# Altium footprint library Transistors$.PcbLib: 18 footprints (part 1 of 2)
Each footprint in its own frame and in the unit in brackets; x right, y up, seen from the top. Pads: shape width x height; smd on the part's side, far side on the other; paste and mask are expansions set on the pad; w line width, h text height; cw(c..) or ccw(c..) is an arc to the next point about the centre after c.
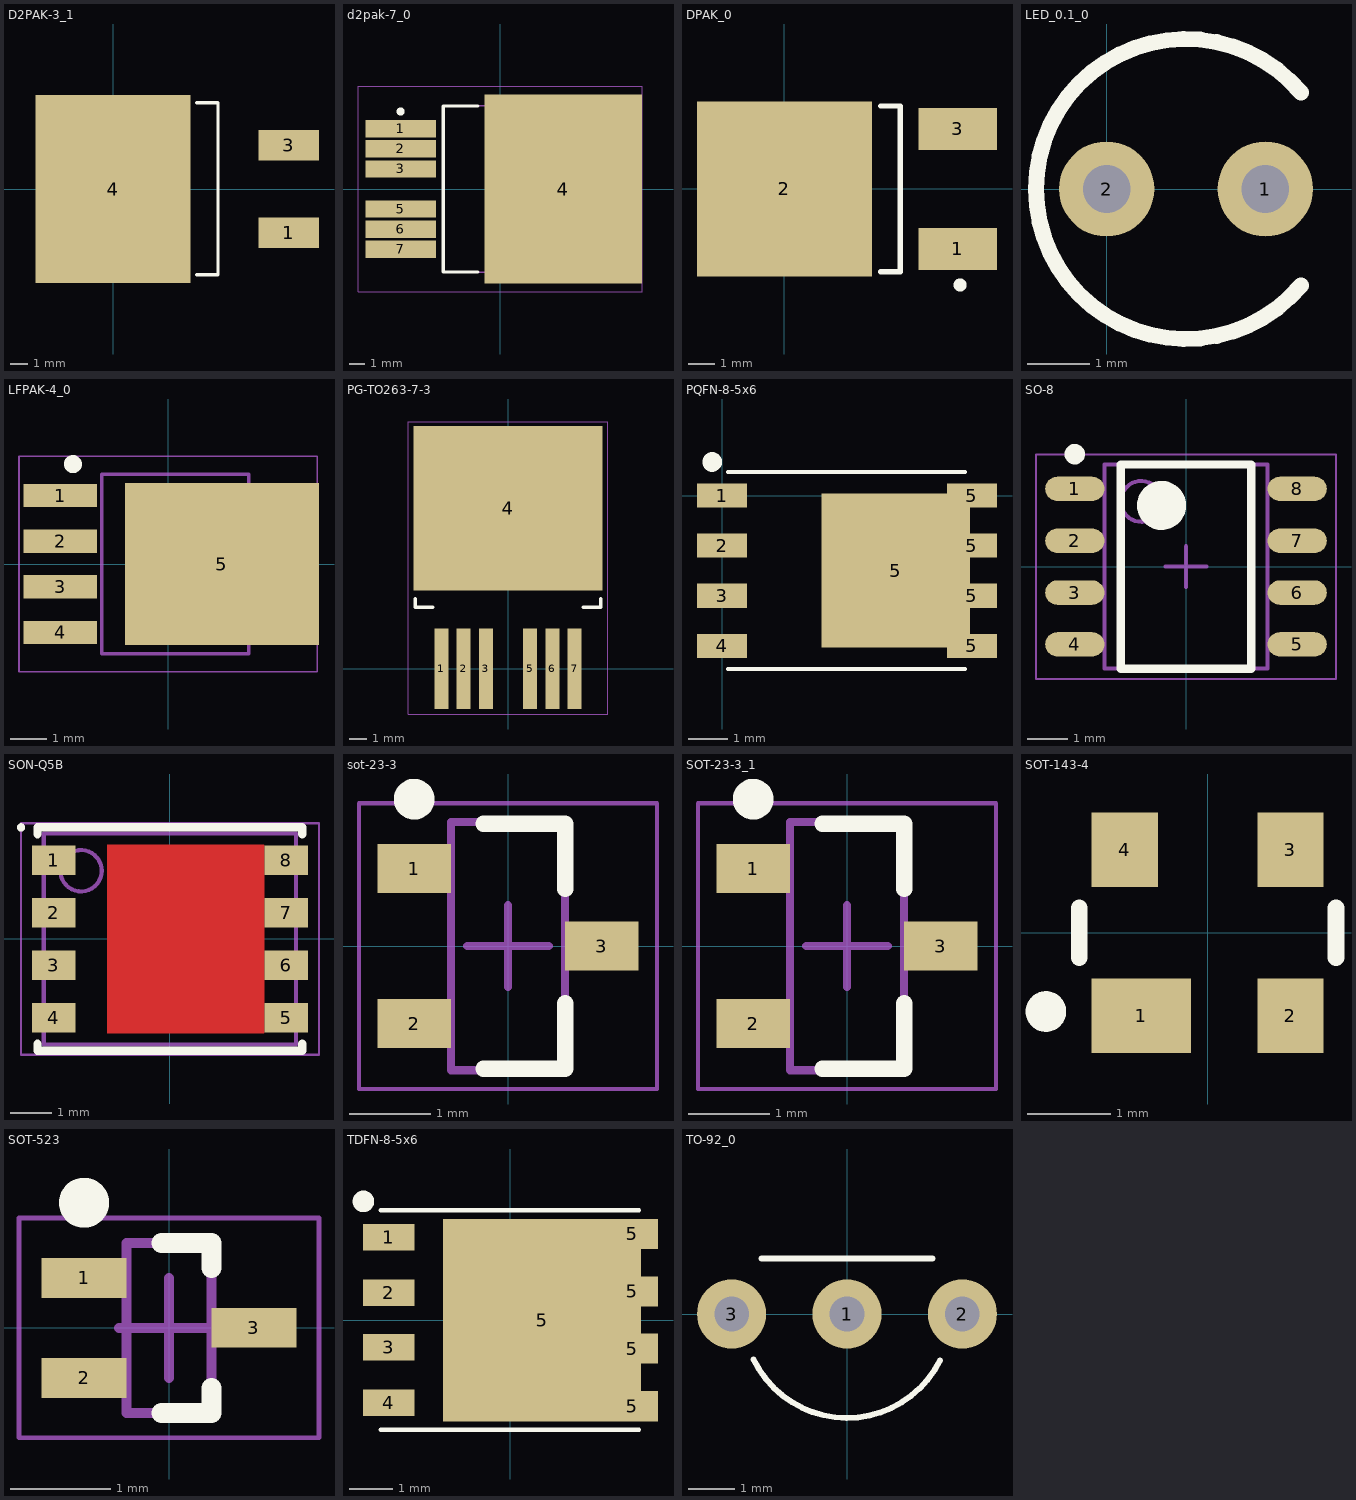
[diagram p0: the footprints below, top view; thin cyan lines are the x and y axes]

## D2PAK-3_1 [mm] "slightly larger pads that *_0"
pads (3):
  rect 3.504x1.78 smd: 1(10.213,-2.54) 3(10.213,2.54)
  rect 9.02x10.92 smd: 4(0,0)
Top Overlay:
  lines w0.2: 4.85,-4.975 6.1,-4.975 6.1,5 4.85,5
3D body: height 1.25, standoff 0, extent -4,-5 -3.3,5
3D body "TO263-2-1.stp": height 4.22, standoff 0, extent -3.841,-4.861 10.744,4.961

## d2pak-7_0 [mm] "D2-Pak, 7 pin, Large Thermal Pad"
height 4.83
pads (7):
  rect 4.45x1.1 smd: 1(-6.3,3.81) 2(-6.3,2.54) 3(-6.3,1.27) 5(-6.3,-1.27) 6(-6.3,-2.54) 7(-6.3,-3.81)
  rect 10x12 smd: 4(4,0)
Top Overlay:
  circle w0.25: c-6.3,4.91 r0.125
  lines w0.2: -1.4,-5.25 -3.6,-5.25 -3.6,5.25 -1.4,5.25
Mechanical 13:
  lines w0.1: -3.6,-5.275 6.05,-5.275 6.05,5.275 -3.6,5.275 -3.6,-5.275
Mechanical 15:
  lines w0.05: -9,-6.5 9,-6.5 9,6.5 -9,6.5 -9,-6.5
  lines w0.1: -0.5,0 0.5,0 ; 0,-0.5 0,0.5
3D body: height 4.83, standoff 0, extent -3.6,-5.275 6.05,5.275

## DPAK_0 [mm] "DPAK"
pads (3):
  rect 3x1.6 smd: 1(6.65,-2.3) 3(6.65,2.3)
  rect 6.7x6.7 smd: 2(0,0)
Top Overlay:
  circle w0.25: c6.731,-3.683 r0.125
  lines w0.2: 3.683,-3.175 4.445,-3.175 4.445,3.175 3.683,3.175

## LED_0.1_0 [mil] "LED, Dual Lead, 0.1\" Spacing"
pads (2):
  round 60 hole 30: 1(100,0) 2(0,0)
Top Overlay:
  lines w10: 122.38,-60.74 cw(c50,0) 122.38,60.74

## LFPAK-4_0 [mm] "TO, 5-Pads, Body 5.15x5.86mm (max), IPC Low Density"
height 1.2
pads (5):
  rect 2.05x0.65 smd: 1(-3,1.905) 2(-3,0.635) 3(-3,-0.635) 4(-3,-1.905)
  rect 5.4x4.5 smd: 5(1.5,0)
Top Overlay:
  circle w0.25: c-2.65,2.78 r0.125
Mechanical 13:
  lines w0.1: -1.85,-2.5 2.25,-2.5 2.25,2.5 -1.85,2.5 -1.85,-2.5
Mechanical 15:
  lines w0.05: -4.15,-3 4.15,-3 4.15,3 -4.15,3 -4.15,-3
  lines w0.1: -0.5,0 0.5,0 ; 0,-0.5 0,0.5
3D body: height 1.2, standoff 0, extent -1.85,-2.5 2.25,2.5

## PCBComponent_1 [mm]

## PG-TO263-7-3 [mm] "Power Transistor Package"
pads (7):
  rect 0.8x4.6 smd: 1(-3.81,0) 2(-2.54,0) 3(-1.27,0) 5(1.27,0) 6(2.54,0) 7(3.81,0)
  rect 10.8x9.4 smd: 4(0,9.15)
Top Overlay:
  lines w0.2: -5.3,4 -5.3,3.5 -4.3,3.5 ; 4.3,3.5 5.3,3.5 5.3,4
Mechanical 15:
  lines w0.05: -5.7,-2.6 -5.7,14.1 5.7,14.1 5.7,-2.6 -5.7,-2.6
3D body: height 4.4, standoff 0, extent -5.3,3.5 5.3,12.8
3D body: height 1.27, standoff 0, extent -5.3,3.5 5.3,13.8

## PQFN-8-5x6 [mm]
pads (9):
  rect 1.27x0.61 smd: 1(0,0) 2(0,-1.27) 3(0,-2.54) 4(0,-3.81) 5(6.33,-3.81) 5(6.33,-2.54) 5(6.33,-1.27) 5(6.33,0)
  rect 3.75x3.91 smd: 5(4.4,-1.9)
Top Overlay:
  circle w0.25: c-0.25,0.85 r0.125
  lines w0.1: 0.15,-4.4 6.15,-4.4 ; 0.15,0.6 6.15,0.6
3D body: height 1.1, standoff 0, extent 0.15,-4.4 6.15,0.6

## SO-8 [mm] "SO-8 Package"
height 1.75
pads (8):
  oval 1.45x0.6 smd: 1(-2.725,1.905) 2(-2.725,0.635) 3(-2.725,-0.635) 4(-2.725,-1.905) 5(2.725,-1.905) 6(2.725,-0.635) 7(2.725,0.635) 8(2.725,1.905)
Top Overlay:
  circle w0.6: c-0.6,1.5 r0.3
  circle w0.25: c-2.725,2.755 r0.125
  lines w0.2: -1.6,-2.5 1.6,-2.5 1.6,2.5 -1.6,2.5 -1.6,-2.5
Mechanical 13:
  circle w0.1: c-1.1,1.6 r0.5
  lines w0.1: -2,-2.5 2,-2.5 2,2.5 -2,2.5 -2,-2.5
Mechanical 15:
  lines w0.05: -3.675,-2.75 3.675,-2.75 3.675,2.75 -3.675,2.75 -3.675,-2.75
  lines w0.1: -0.5,0 0.5,0 ; 0,-0.5 0,0.5
3D body "SOIC08 narrow.stp": height 2, standoff 0, extent -3.082,-2.5 3.081,2.5

## SON-Q5B [mm] "SON, 8-Leads, Body 5.00x6.00mm, Pitch 1.27mm, IPC Medium Density"
height 1.05
pads (8):
  rect 1.05x0.71 smd: 1(-2.81,1.905) 2(-2.81,0.635) 3(-2.81,-0.635) 4(-2.81,-1.905) 5(2.81,-1.905) 6(2.81,-0.635) 7(2.81,0.635) 8(2.81,1.905)
Top Layer:
  rectangle: -1.524,-2.286 2.286,2.286
Top Overlay:
  circle w0.1: c-3.6,2.7 r0.05
  lines w0.2: -3.2,-2.53 -3.2,-2.7 3.2,-2.7 3.2,-2.53 ; -3.2,2.53 -3.2,2.7 3.2,2.7 3.2,2.53
Top Solder:
  rectangle: -1.651,-2.413 2.413,2.413
Mechanical 13:
  circle w0.1: c-2.15,1.65 r0.5
  lines w0.1: -3.05,-2.55 3.05,-2.55 3.05,2.55 -3.05,2.55 -3.05,-2.55
Mechanical 15:
  lines w0.05: -3.605,-2.8 3.605,-2.8 3.605,2.8 -3.605,2.8 -3.605,-2.8
  lines w0.1: -0.5,0 0.5,0 ; 0,-0.5 0,0.5
3D body: height 1.05, standoff 0, extent -3.05,-2.55 3.05,2.55

## sot-23-3 [mm] "SOT-23-3 package"
height 1.1
pads (3):
  rect 0.9x0.6 smd: 1(-1.15,0.95) 2(-1.15,-0.95) 3(1.15,0)
Top Overlay:
  circle w0.25: c-1.15,1.8 r0.125
  lines w0.2: -0.3,-1.5 0.7,-1.5 0.7,-0.7 ; -0.3,1.5 0.7,1.5 0.7,0.7
Mechanical 13:
  lines w0.1: -0.7,-1.52 -0.7,1.52 0.7,1.52 0.7,-1.52 -0.7,-1.52
Mechanical 15:
  lines w0.05: -1.825,-1.75 -1.825,1.75 1.825,1.75 1.825,-1.75 -1.825,-1.75
  lines w0.1: -0.5,0 0.5,0 ; 0,-0.5 0,0.5
3D body "SOT23-3.stp": height 1.2, standoff 0.02, extent -1.418,-1.5 1.418,1.5

## SOT-23-3_1 [mm] "SOT-23-3 package"
height 1.1
pads (3):
  rect 0.9x0.6 smd: 1(-1.15,0.95) 2(-1.15,-0.95) 3(1.15,0)
Top Overlay:
  circle w0.25: c-1.15,1.8 r0.125
  lines w0.2: -0.3,-1.5 0.7,-1.5 0.7,-0.7 ; -0.3,1.5 0.7,1.5 0.7,0.7
Mechanical 13:
  lines w0.1: -0.7,-1.52 -0.7,1.52 0.7,1.52 0.7,-1.52 -0.7,-1.52
Mechanical 15:
  lines w0.05: -1.825,-1.75 -1.825,1.75 1.825,1.75 1.825,-1.75 -1.825,-1.75
  lines w0.1: -0.5,0 0.5,0 ; 0,-0.5 0,0.5
3D body "SOT23-3.stp": height 1.2, standoff 0.02, extent -1.418,-1.5 1.418,1.5

## SOT-143-4 [mm] "SOT-143"
pads (4):
  rect 1.2x0.9 smd: 1(-0.8,-1)
  rect 0.8x0.9 smd: 2(1,-1) 3(1,1) 4(-1,1)
Top Overlay:
  circle w0.25: c-1.95,-0.95 r0.12
  lines w0.2: -1.55,-0.3 -1.55,0.3 ; 1.55,-0.3 1.55,0.3
3D body "TO-253AA.stp": height 1.2, standoff 0, extent -1.5,-1.3 1.5,1.3

## SOT-523 [mm] "SOT23, 3-Leads, Body 1.60x1.60mm, Pitch 0.50mm, IPC Medium Density"
height 0.99
pads (3):
  rect 0.85x0.4 smd: 1(-0.85,0.5) 2(-0.85,-0.5) 3(0.85,0)
Top Overlay:
  circle w0.25: c-0.85,1.25 r0.125
  lines w0.2: -0.075,-0.85 0.425,-0.85 0.425,-0.6 ; -0.075,0.85 0.425,0.85 0.425,0.6
Mechanical 13:
  lines w0.1: -0.425,-0.85 -0.425,0.85 0.425,0.85 0.425,-0.85 -0.425,-0.85
Mechanical 15:
  lines w0.05: -1.5,-1.1 -1.5,1.1 1.5,1.1 1.5,-1.1 -1.5,-1.1
  lines w0.1: -0.5,0 0.5,0 ; 0,-0.5 0,0.5
3D body: height 0.99, standoff 0.05, extent -0.425,-0.85 0.425,0.85

## TDFN-8-5x6 [mm]
pads (9):
  rect 1.2x0.62 smd: 1(-2.825,1.92) 2(-2.825,0.635) 3(-2.825,-0.635) 4(-2.825,-1.92)
  rect 4.6x4.7 smd: 5(0.735,0)
  rect 1.2x0.7 smd: 5(2.825,-2) 5(2.825,-0.665) 5(2.825,0.665) 5(2.825,2)
Top Overlay:
  circle w0.25: c-3.415,2.755 r0.125
  lines w0.1: -3.015,-2.55 2.985,-2.55 ; -3.015,2.55 2.985,2.55
3D body: height 1.1, standoff 0, extent -3.015,-2.495 2.985,2.505

## TO-92_0 [mm] "TO-92 formed leads"
pads (3):
  round 1.5 hole 0.75: 1(0,0) 2(2.5,0) 3(-2.5,0)
Top Overlay:
  lines w0.127: -2.024,-0.987 ccw(c0,0) 2.014,-1.007 ; -1.85,1.2 1.85,1.2
3D body "TO-92 Formed Leads.stp": height 7.58, standoff -4, extent -2.77,-2.35 2.77,1.21